# Altium footprint library CANIO.PcbLib: 7 footprints
Each footprint in its own frame and in the unit in brackets; x right, y up, seen from the top. Pads: shape width x height; smd on the part's side, far side on the other; paste and mask are expansions set on the pad; w line width, h text height; cw(c..) or ccw(c..) is an arc to the next point about the centre after c.
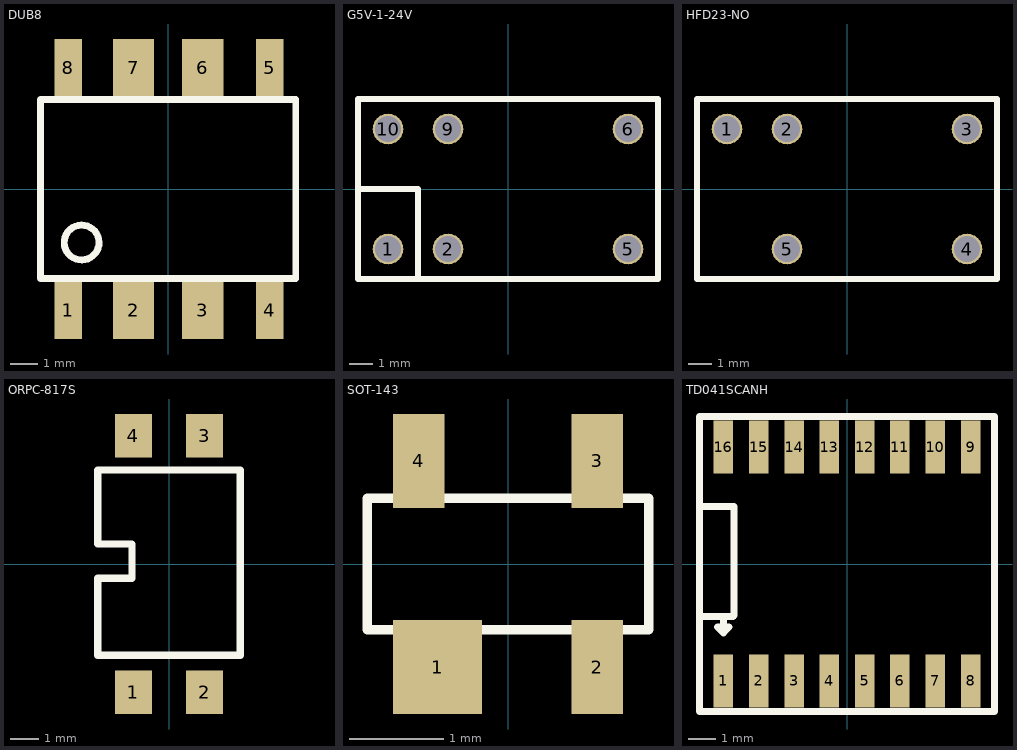
[diagram p0: the footprints below, top view; thin cyan lines are the x and y axes]

## DUB8 [mm]
pads (8):
  rect 1x2.1 smd: 1(-3.67,-4.47) 4(3.74,-4.47) 5(3.74,4.47) 8(-3.67,4.47)
  rect 1.524x2.1 smd: 2(-1.27,-4.47) 3(1.27,-4.47) 6(1.27,4.47) 7(-1.27,4.47)
Top Overlay:
  lines w0.254: -4.7,-3.3 -4.7,3.3 4.7,3.3 4.7,-3.3 -4.7,-3.3 ; -2.539,-1.96 ccw(c-3.18,-1.97) -2.539,-1.96

## G5V-1-24V [mm] "欧姆龙1极继电器"
pads (6):
  round 1.3 hole 1.1: 1(-5.08,-2.54) 2(-2.54,-2.54) 5(5.08,-2.54) 6(5.08,2.54) 9(-2.54,2.54) 10(-5.08,2.54)
Top Overlay:
  lines w0.254: -6.35,0 -3.81,0 -3.81,-3.81 ; -6.35,-3.81 -6.35,3.81 6.35,3.81 6.35,-3.81 -6.35,-3.81

## HFD23-NO [mm] "HFD23-NO 常开"
pads (5):
  round 1.3 hole 1.1: 1(-5.08,2.54) 2(-2.54,2.54) 3(5.08,2.54) 4(5.08,-2.54) 5(-2.54,-2.54)
Top Overlay:
  lines w0.254: -6.35,-3.81 0,-3.81 6.35,-3.81 6.35,3.81 -6.35,3.81 -6.35,-3.81

## NSI1050 [mm] "8pin DDBR"

## ORPC-817S [mm] "奥伦德光耦 PC817替代"
pads (4):
  rect 1.3x1.524 smd: 1(-1.25,-4.5) 2(1.25,-4.5) 3(1.25,4.5) 4(-1.25,4.5)
Top Overlay:
  lines w0.254: -2.5,-3.2 -2.5,-0.5 -1.3,-0.5 -1.3,0.7 -1.6,0.7 -2.5,0.7 -2.5,3.3 2.5,3.3 2.5,-3.2 -2.5,-3.2

## SOT-143 [mm]
pads (4):
  rect 0.95x1 smd: 1(-0.75,-1.1)
  rect 0.55x1 smd: 2(0.95,-1.1) 3(0.95,1.1) 4(-0.95,1.1)
Top Overlay:
  lines w0.1: -1.5,-0.7 -0.19,-0.7 0.49,-0.7 1.5,-0.7 1.5,0.7 -1.5,0.7 -1.5,-0.7

## TD041SCANH [mm] "隔离CAN收发器"
pads (16):
  rect 0.7x1.9 smd: 1(-4.44,-4.2) 2(-3.17,-4.2) 3(-1.9,-4.2) 4(-0.63,-4.2) 5(0.63,-4.2) 6(1.9,-4.2) 7(3.17,-4.2) 8(4.44,-4.2) 9(4.44,4.2) 10(3.17,4.2) 11(1.9,4.2) 12(0.63,4.2) 13(-0.63,4.2) 14(-1.9,4.2) 15(-3.17,4.2) 16(-4.44,4.2)
Top Overlay:
  lines w0.254: -5.3,2.06 -4.06,2.06 -4.06,-1.85 -4.09,-1.88 -5.27,-1.88 ; -4.44,-2.45 -4.25,-2.26 -4.65,-2.26 -4.44,-2.47 -4.44,-1.88 ; -5.3,-5.3 5.3,-5.3 5.3,5.3 -5.3,5.3 -5.3,-5.3